# EAGLE library part MAX682 (library max682)
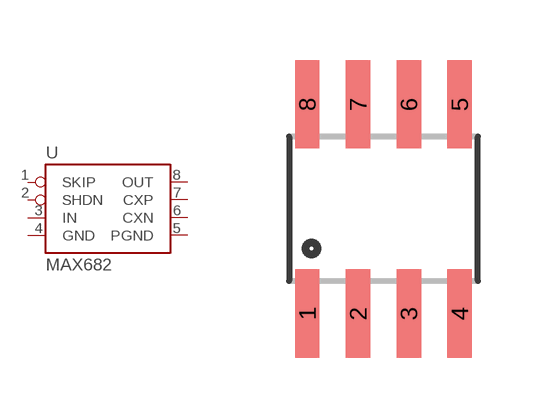
[diagram p0: symbol with the pads of SO08; footprint SO08]

Designator prefix U

## MAX682  [SO08]
1  SKIP
2  SHDN
3  IN
4  GND
5  PGND
6  CXN
7  CXP
8  OUT

## Footprint SO08 (pad centres in mm)
smd 0.61 x 2.21: 1 -1.905,-2.616; 2 -0.635,-2.616; 3 0.635,-2.616; 4 1.905,-2.616; 5 1.905,2.616; 6 0.635,2.616; 7 -0.635,2.616; 8 -1.905,2.616